# Altium schematic symbol library SpaceVNX.SCHLIB: 113 symbols (part 2 of 4)
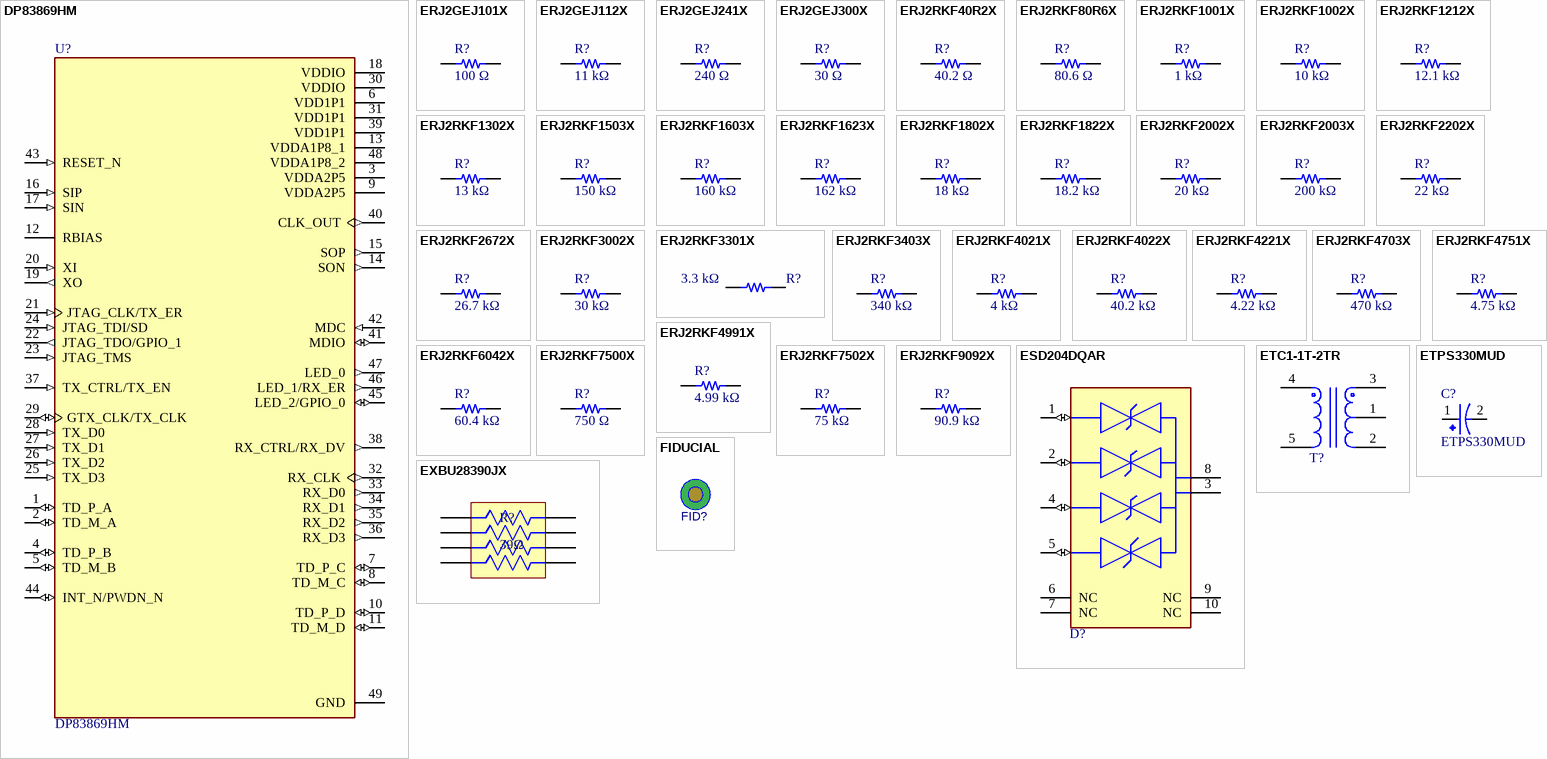
[diagram p14: symbols DP83869HM to FIDUCIAL]

## ERJ2RKF4022X
designator R?, comment 40.2 kΩ
General Purpose Thick Film Chip Resistors; Manufacturer: Panasonic; Power (0402): 0.1 W; Limiting Voltage (0402): 50; Maximum Voltage (0402): 100; Resistance Range (Ω): 1Ω to 100MΩ; AEC 200: Grade 0; Size (0402): 2GE; ComponentLink1Description: Catalog; ComponentLink1URL: https://industrial.panasonic.com/ww/products/pt/general-purpose-chip-resistors/models?op=search&model_status_current=1&page=0#model-list-search-results; Series: ERJ; Temperature Range (ºC): -55 to +155; Supplier 1: Digi-Key; Supplier Part Number 1: P40.2KLTR-ND
footprint PANASONIC_ERJ2G_0402 (Chip Resistor, 2-Leads, Body 1,00x0,50mm, IPC Medium Density)
pins: 1, 2

## ERJ2RKF4221X
designator R?, comment 4.22 kΩ
General Purpose Thick Film Chip Resistors; Manufacturer: Panasonic; Power (0402): 0.1 W; Limiting Voltage (0402): 50; Maximum Voltage (0402): 100; Resistance Range (Ω): 1Ω to 100MΩ; AEC 200: Grade 0; Size (0402): 2GE; ComponentLink1Description: Catalog; ComponentLink1URL: https://industrial.panasonic.com/ww/products/pt/general-purpose-chip-resistors/models?op=search&model_status_current=1&page=0#model-list-search-results; Series: ERJ; Temperature Range (ºC): -55 to +155; Supplier 1: Digi-Key; Supplier 2: Mouser; Supplier Part Number 1: P4.22KLCT-ND; Supplier Part Number 2: 667-ERJ-2RKF4221X
footprint PANASONIC_ERJ2G_0402 (Chip Resistor, 2-Leads, Body 1,00x0,50mm, IPC Medium Density)
pins: 1, 2

## ERJ2RKF4703X
designator R?, comment 470 kΩ
General Purpose Thick Film Chip Resistors; Manufacturer: Panasonic; Power (0402): 0.1 W; Limiting Voltage (0402): 50; Maximum Voltage (0402): 100; Resistance Range (Ω): 1Ω to 100MΩ; AEC 200: Grade 0; Size (0402): 2GE; ComponentLink1Description: Catalog; ComponentLink1URL: https://industrial.panasonic.com/ww/products/pt/general-purpose-chip-resistors/models?op=search&model_status_current=1&page=0#model-list-search-results; Series: ERJ; Temperature Range (ºC): -55 to +155; Supplier 1: Digi-Key; Supplier Part Number 1: P470KLCT-ND
footprint PANASONIC_ERJ2G_0402 (Chip Resistor, 2-Leads, Body 1,00x0,50mm, IPC Medium Density)
pins: 1, 2

## ERJ2RKF4751X
designator R?, comment 4.75 kΩ
General Purpose Thick Film Chip Resistors; Manufacturer: Panasonic; Power (0402): 0.1 W; Limiting Voltage (0402): 50; Maximum Voltage (0402): 100; Resistance Range (Ω): 1Ω to 100MΩ; AEC 200: Grade 0; Size (0402): 2GE; ComponentLink1Description: Catalog; ComponentLink1URL: https://industrial.panasonic.com/ww/products/pt/general-purpose-chip-resistors/models?op=search&model_status_current=1&page=0#model-list-search-results; Series: ERJ; Temperature Range (ºC): -55 to +155; Supplier 1: RSComponents; Supplier 2: Digi-Key; Supplier Part Number 1: 1065277; Supplier Part Number 2: P4.75KLCT-ND
footprint PANASONIC_ERJ2G_0402 (Chip Resistor, 2-Leads, Body 1,00x0,50mm, IPC Medium Density)
pins: 1, 2

## ERJ2RKF4991X
designator R?, comment 4.99 kΩ
General Purpose Thick Film Chip Resistors; Manufacturer: Panasonic; Power (0402): 0.1 W; Limiting Voltage (0402): 50; Maximum Voltage (0402): 100; Resistance Range (Ω): 1Ω to 100MΩ; AEC 200: Grade 0; Size (0402): 2GE; ComponentLink1Description: Catalog; ComponentLink1URL: https://industrial.panasonic.com/ww/products/pt/general-purpose-chip-resistors/models?op=search&model_status_current=1&page=0#model-list-search-results; Series: ERJ; Temperature Range (ºC): -55 to +155; Supplier 1: Digi-Key; Supplier Part Number 1: P4.99KLTR-ND
footprint PANASONIC_ERJ2G_0402 (Chip Resistor, 2-Leads, Body 1,00x0,50mm, IPC Medium Density)
pins: 1, 2

## ERJ2RKF6042X
designator R?, comment 60.4 kΩ
General Purpose Thick Film Chip Resistors; Manufacturer: Panasonic; Power (0402): 0.1 W; Limiting Voltage (0402): 50; Maximum Voltage (0402): 100; Resistance Range (Ω): 1Ω to 100MΩ; AEC 200: Grade 0; Size (0402): 2GE; ComponentLink1Description: Catalog; ComponentLink1URL: https://industrial.panasonic.com/ww/products/pt/general-purpose-chip-resistors/models?op=search&model_status_current=1&page=0#model-list-search-results; Series: ERJ; Temperature Range (ºC): -55 to +155; Supplier 1: Mouser; Supplier 2: Digi-Key; Supplier Part Number 1: 667-ERJ-2RKF6042X; Supplier Part Number 2: P60.4KLCT-ND
footprint PANASONIC_ERJ2G_0402 (Chip Resistor, 2-Leads, Body 1,00x0,50mm, IPC Medium Density)
pins: 1, 2

## ERJ2RKF7500X
designator R?, comment 750 Ω
General Purpose Thick Film Chip Resistors; Manufacturer: Panasonic; Power (0402): 0.1 W; Limiting Voltage (0402): 50; Maximum Voltage (0402): 100; Resistance Range (Ω): 1Ω to 100MΩ; AEC 200: Grade 0; Size (0402): 2GE; ComponentLink1Description: Catalog; ComponentLink1URL: https://industrial.panasonic.com/ww/products/pt/general-purpose-chip-resistors/models?op=search&model_status_current=1&page=0#model-list-search-results; Series: ERJ; Temperature Range (ºC): -55 to +155; Supplier 1: Avnet; Supplier Part Number 1: 73T6541
footprint PANASONIC_ERJ2G_0402 (Chip Resistor, 2-Leads, Body 1,00x0,50mm, IPC Medium Density)
pins: 1, 2

## ERJ2RKF7502X
designator R?, comment 75 kΩ
General Purpose Thick Film Chip Resistors; Manufacturer: Panasonic; Power (0402): 0.1 W; Limiting Voltage (0402): 50; Maximum Voltage (0402): 100; Resistance Range (Ω): 1Ω to 100MΩ; AEC 200: Grade 0; Size (0402): 2GE; ComponentLink1Description: Catalog; ComponentLink1URL: https://industrial.panasonic.com/ww/products/pt/general-purpose-chip-resistors/models?op=search&model_status_current=1&page=0#model-list-search-results; Series: ERJ; Temperature Range (ºC): -55 to +155; Supplier 1: Digi-Key; Supplier Part Number 1: P75.0KLCT-ND
footprint PANASONIC_ERJ2G_0402 (Chip Resistor, 2-Leads, Body 1,00x0,50mm, IPC Medium Density)
pins: 1, 2

## ERJ2RKF9092X
designator R?, comment 90.9 kΩ
General Purpose Thick Film Chip Resistors; Manufacturer: Panasonic; Power (0402): 0.1 W; Limiting Voltage (0402): 50; Maximum Voltage (0402): 100; Resistance Range (Ω): 1Ω to 100MΩ; AEC 200: Grade 0; Size (0402): 2GE; ComponentLink1Description: Catalog; ComponentLink1URL: https://industrial.panasonic.com/ww/products/pt/general-purpose-chip-resistors/models?op=search&model_status_current=1&page=0#model-list-search-results; Series: ERJ; Temperature Range (ºC): -55 to +155; Supplier 1: Mouser; Supplier 2: Digi-Key; Supplier Part Number 2: P90.9KLCT-ND; Supplier Part Number 1: 667-ERJ-2RKF9092X
footprint PANASONIC_ERJ2G_0402 (Chip Resistor, 2-Leads, Body 1,00x0,50mm, IPC Medium Density)
pins: 1, 2

## ESD204DQAR
designator D?  (value not drawn)
ESD204 4-Channel Low-Capacitance Surge and ESD Protection Diode; Number of channels (#): 4; IO capacitance (Typ) (pF): 0.55; Vrwm (V): 3.6; Bi-/uni-directional: Bi-Directional; IO leakage current (Max) (nA): 10; Rating: Catalog; Dynamic resistance (Typ) (Ω): 0.3; Clamping voltage (V): 11.5; Operating temperature range (C): -40ºC to 125ºC; ComponentLink1Description: Manufacturer; ComponentLink1URL: https://www.ti.com/product/ESD204; Supplier 1: Digi-Key; Supplier 2: Mouser; Supplier Part Number 1: 296-49504-1-ND; Supplier Part Number 2: 595-ESD204DQAR
footprint TEXAS_USON10 (DQA)
pins: 1 IO1 (io), 2 IO2 (io), 3 GND (power), 4 IO3 (io), 5 IO4 (io), 6 NC, 7 NC, 8 GND (power), 9 NC, 10 NC

## ETC1-1T-2TR
designator T?  (value not drawn)
1:1 Flux Coupled Balun 0.1-200MHz; Frequency Range: 100 kHz to 200 MHz; Primary Impedance: 50 Ohms; Maximum DC Current: 30 mA; Power Rating: 250 mW (1/4 W); Type: RF transformer; Package: SM-22-5; ComponentLink1Description: Manufacturer; ComponentLink1URL: https://www.macom.com/products/product-detail/ETC1-1T-2TR; Supplier 1: Mouser; Supplier 2: Digi-Key; Supplier Part Number 1: 937-ETC1-1T-2; Supplier Part Number 2: ETC1-1T-2TR-ND
footprint MA-COM_ETC1-1T-2TR
pins: 1 Secondary, 2 Secondary CT, 3 Secondary Dot, 4 Primary Dot, 5 Primary

## ETPS330MUD
designator C?
Conductive Polymer Tantalum Solid Capacitors; Rated capacitance range (µF): 330.00; Rated voltage (DC) (V): 2.50; MF: Panasonic; Package: B1S; MP: ETPS330MUD; Supplier 1: Digi-Key; Supplier Part Number 1: 10-ETPS330MUDDKR-ND
footprint PANASONIC_B1S
pins: 1, 2

## EXBU28390JX
designator R?, comment 39Ω
Chip Resistor Array; Manufacturer: Panasonic; Power: 0.063 W; Limiting Voltage (0402): 50; Maximum Voltage (0402): 100; Resistance Range (Ω): 1Ω to 100MΩ; AEC 200: Grade 0; Size: 2.0 X 1.0; ComponentLink1Description: Catalog; ComponentLink1URL: https://industrial.panasonic.com/ww/products/pt/resistor-network-array/models; Series: EXB; Temperature Range (ºC): -55 to +155; Supplier 1: Digi-Key; Supplier Part Number 1: P16171CT-ND
footprint PANASONIC_EXB_0402 (4 resistors in 2.0 mm x 1.0 mm size / 0804 inch size)
pins: 1, 2, 3, 4, 5, 6, 7, 8

## FIDUCIAL
designator FID?  (value not drawn)
PCB fiducial
footprint FID1MM/2MM-SS (Fiducial 1mm copper, 2mm soldermask, single-side)

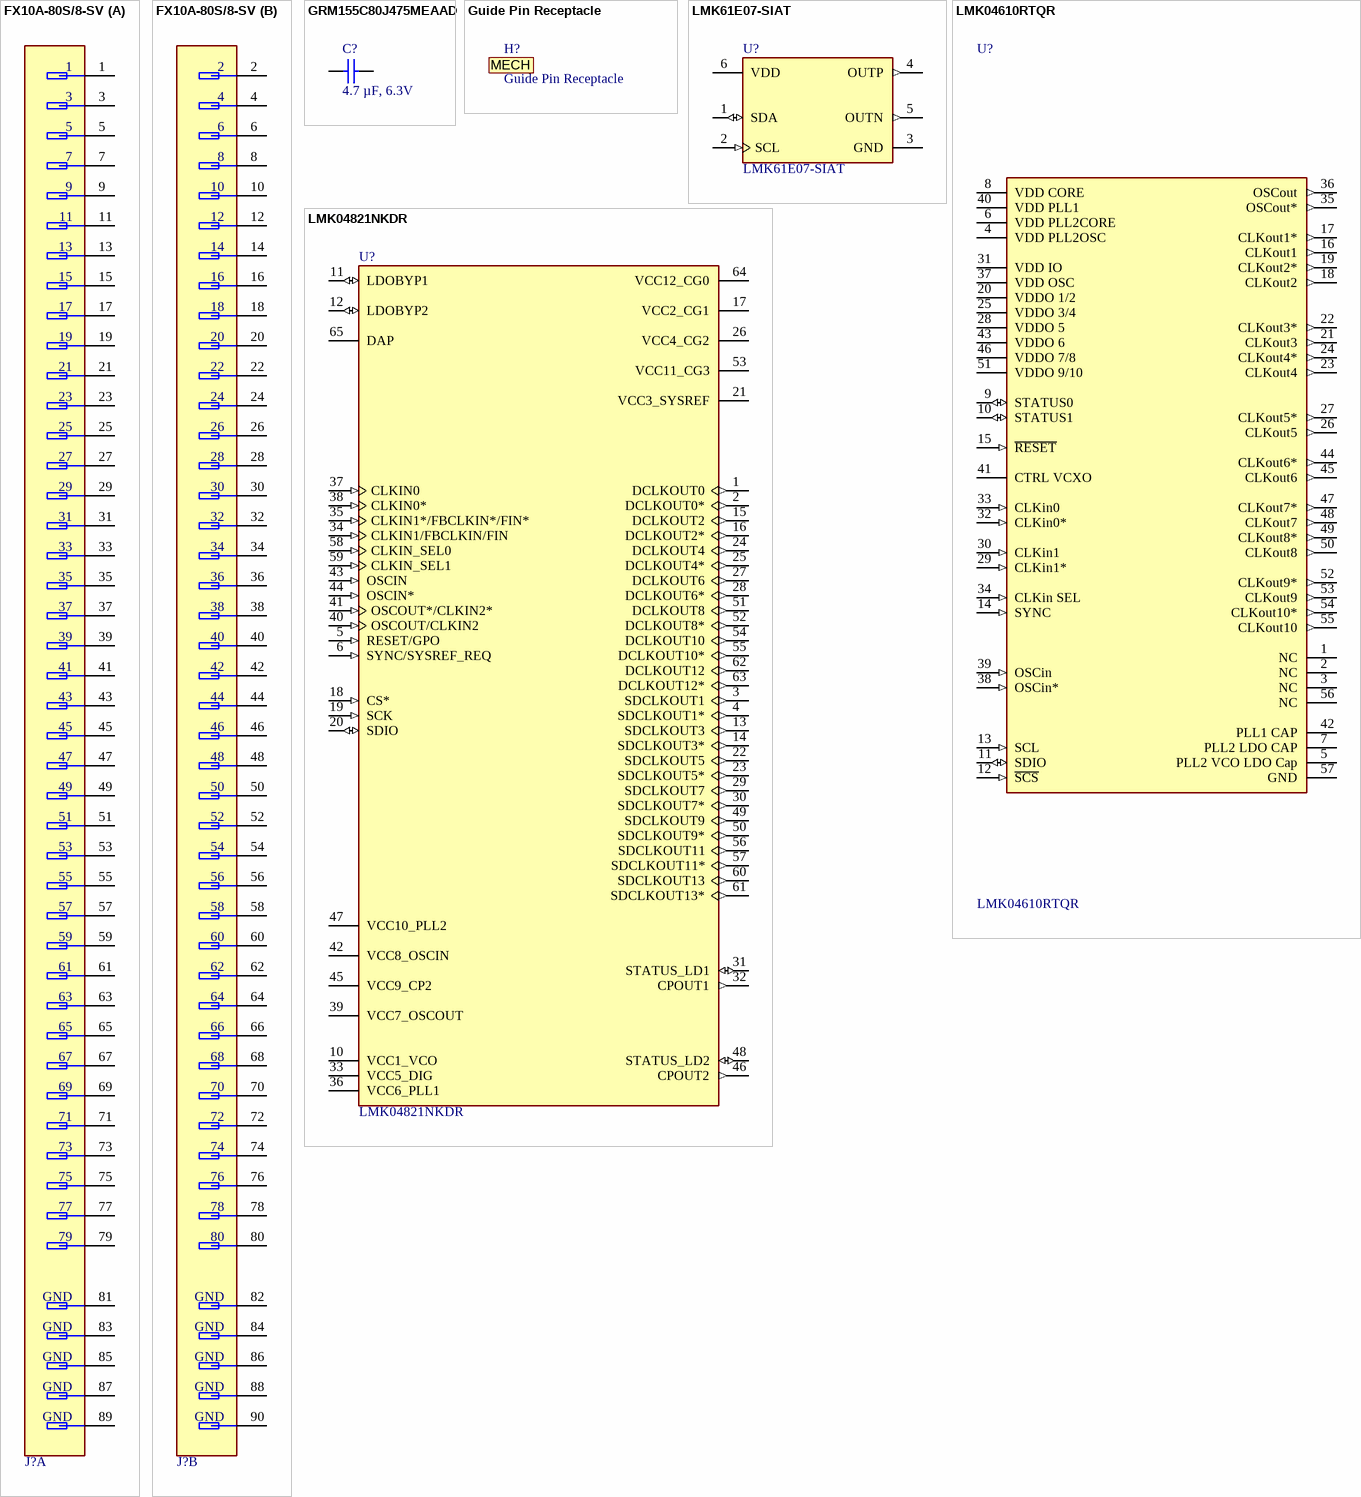
[diagram p3: symbols FX10A-80S/8-SV to LMK04821NKDR]

## FX10A-80S/8-SV
designator J?  (value not drawn)
80 Position Connector Header, Outer Shroud Contacts Surface Mount Gold; ComponentLink1Description: Manufacturer; ComponentLink1URL: https://www.hirose.com/en/product/p/CL0570-0121-7-71; Supplier 1: Digi-Key; Supplier 2: Mouser; Supplier Part Number 2: 798-FX10A80S8SV71; Supplier Part Number 1: H11232-ND
footprint HRS_FX10A-80S/8-SV (80 Position Connector Header, Outer Shroud Contacts Surface Mount Gold)
part A pins: 1, 3, 5, 7, 9, 11, 13, 15, 17, 19, 21, 23, 25, 27, 29, 31, 33, 35, 37, 39, 41, 43, 45, 47, 49, 51, 53, 55, 57, 59, 61, 63, 65, 67, 69, 71, 73, 75, 77, 79, 81 GND, 83 GND, 85 GND, 87 GND, 89 GND
part B pins: 2, 4, 6, 8, 10, 12, 14, 16, 18, 20, 22, 24, 26, 28, 30, 32, 34, 36, 38, 40, 42, 44, 46, 48, 50, 52, 54, 56, 58, 60, 62, 64, 66, 68, 70, 72, 74, 76, 78, 80, 82 GND, 84 GND, 86 GND, 88 GND, 90 GND

## GRM155C80J475MEAAD
designator C?, comment 4.7 µF, 6.3V
Multilayer Ceramic Capacitors MLCC, size 0402, X5R, 4.7 µF, 6.3V; Manufacturer Part Number: GRM155C80J475MEAAD; Manufacturer: Murata; Rated Voltage: 6.3VDC; Ceramic Type: X6S; Capacitance Tolerance: +/-20%; Dissipation Factor max.: 10%; Capacitance: 4.7 µF; Operating Temperature: -55 to +105degC; Packaging: Tape and Reel; Height: 0.5mm; Mounting Technology: SMT; Size: 0402; Supplier 1: Digi-Key; Supplier 2: Mouser; Supplier Part Number 1: 490-14458-1-ND; Supplier Part Number 2: 81-GRM155C80J475MEAD
footprint WURTH_WCAP-CSGP_0402 (Ceramic Capacitors, body 1x0.5mm)
pins: 1, 2

## Guide Pin Receptacle
designator H?
Keyed Guide Right Angle Receptacle; Supplier 1: Avnet; Supplier Part Number 1: 10037912-119LF
footprint Guide Pin Receptacle
text: MECH

## LMK61E07-SIAT
designator U?
Multi-signal format, ultra-low jitter programmable oscillator with internal EEPROM; MF: Texas Instruments; Output frequency (Max) (MHz): 1000  MHz; Output level: HCSL, LVDS, LVPECL; Jitter (ps): 0.15; Stability (ppm): 25; Core supply voltage (V): 3.3; Default Frequency: 70.656 MHz; Operating temperature range (C): -40 to 85; Features: Programmable with EEPROM,Fast Mode I2C; Supplier 1: Mouser; Supplier 2: Digi-Key; Supplier Part Number 1: 595-LMK61E07-SIAT; Supplier Part Number 2: 296-51347-2-ND
footprint TEXAS_QFMSIA06 (Quad Flat Module)
pins: 1 SDA (io), 2 SCL (in), 3 GND (power), 4 OUTP (out), 5 OUTN (out), 6 VDD (power)

## LMK04610RTQR
designator U?
Ultra low-noise and low power JESD204B compliant clock jitter cleaner with dual PLLs.; Number of outputs: 10; RMS jitter (fs): 65; Output frequency (Min) (MHz): 0.03; Output frequency (Max) (MHz): 2000; Function: Dual-loop PLL; Input type: LVCMOS, LVDS, LVPECL; Output type: LVDS, LVPECL; Supply voltage (Min) (V): 1.7; Supply voltage (Max) (V): 3.465; ComponentLink1Description: Manufacturer; ComponentLink1URL: https://www.ti.com/product/LMK04828; ComponentLink2Description: Datasheet; ComponentLink2URL: https://www.ti.com/lit/ds/symlink/lmk04828.pdf?ts=1643235840450&ref_url=https%253A%252F%252Fwww.ti.com%252Fproduct%252FLMK04828; ComponentLink3Description: Package Specification; ComponentLink3URL: https://www.ti.com/lit/ml/mpqs032a/mpqs032a.pdf?ts=1643290177634&ref_url=https%253A%252F%252Fwww.ti.com%252Fpackaging%252Fdocs%252Fsearchproductbypackage.tsp%253ForderablePartNumber%253D%2526packageDesignator%253DNKD%2526pinCount%253D64%2526results%253Dresults; Operating temperature range (ºC): -40ºC to 85ºC; Supplier 1: Digi-Key; Supplier 2: Digi-Key; Supplier Part Number 1: 296-51339-1-ND; Supplier Part Number 2: 296-51339-6-ND
footprint TEXAS_VQFN56 (RTQ, 0.5mm pitch, 8x8mm body)
pins: 1 NC, 2 NC, 3 NC, 4 VDD PLL2OSC (power), 5 PLL2 VCO LDO Cap (power), 6 VDD PLL2CORE (power), 7 PLL2 LDO CAP (power), 8 VDD CORE (power), 9 STATUS0 (io), 10 STATUS1 (io), 11 SDIO (io), 12 ~{SCS} (in), 13 SCL (in), 14 SYNC (in), 15 ~{RESET} (in), 16 CLKout1 (out), 17 CLKout1* (out), 18 CLKout2 (out), 19 CLKout2* (out), 20 VDDO 1/2 (power), 21 CLKout3 (out), 22 CLKout3* (out), 23 CLKout4 (out), 24 CLKout4* (out), 25 VDDO 3/4 (power), 26 CLKout5 (out), 27 CLKout5* (out), 28 VDDO 5 (power), 29 CLKin1* (in), 30 CLKin1 (in), 31 VDD IO (power), 32 CLKin0* (in), 33 CLKin0 (in), 34 CLKin SEL (in), 35 OSCout* (out), 36 OSCout (out), 37 VDD OSC (power), 38 OSCin* (in), 39 OSCin (in), 40 VDD PLL1 (power), 41 CTRL VCXO (power), 42 PLL1 CAP, 43 VDDO 6 (power), 44 CLKout6* (out), 45 CLKout6 (out), 46 VDDO 7/8 (power), 47 CLKout7* (out), 48 CLKout7 (out), 49 CLKout8* (out), 50 CLKout8 (out), 51 VDDO 9/10 (power), 52 CLKout9* (out), 53 CLKout9 (out), 54 CLKout10* (out), 55 CLKout10 (out), 56 NC, 57 GND (power)

## LMK04821NKDR
designator U?
Ultra low-noise JESD204B compliant clock jitter cleaner with integrated 2370 to 2630-MHz VCO.; Number of outputs: 15; RMS jitter (fs): 88; Output frequency (Min) (MHz): 0.289; Output frequency (Max) (MHz): 3080; Function: Dual-loop PLL; Input type: LVCMOS, LVDS, LVPECL; Supply voltage (Min) (V): 3.15; Supply voltage (Max) (V): 3.45; ComponentLink1Description: Manufacturer; ComponentLink1URL: https://www.ti.com/product/LMK04828; ComponentLink2Description: Datasheet; ComponentLink2URL: https://www.ti.com/lit/ds/symlink/lmk04828.pdf?ts=1643235840450&ref_url=https%253A%252F%252Fwww.ti.com%252Fproduct%252FLMK04828; ComponentLink3Description: Package Specification; ComponentLink3URL: https://www.ti.com/lit/ml/mpqs032a/mpqs032a.pdf?ts=1643290177634&ref_url=https%253A%252F%252Fwww.ti.com%252Fpackaging%252Fdocs%252Fsearchproductbypackage.tsp%253ForderablePartNumber%253D%2526packageDesignator%253DNKD%2526pinCount%253D64%2526results%253Dresults; Output type: LVCMOS, LVDS, LVPECL; Operating temperature range (ºC): -40ºC to 85ºC; Supplier 1: Digi-Key; Supplier Part Number 1: LMK04821NKDR-ND
footprint TEXAS_WQFN64
pins: 1 DCLKOUT0 (out), 2 DCLKOUT0* (out), 3 SDCLKOUT1 (out), 4 SDCLKOUT1* (out), 5 RESET/GPO (in), 6 SYNC/SYSREF_REQ (in), 10 VCC1_VCO (power), 11 LDOBYP1 (io), 12 LDOBYP2 (io), 13 SDCLKOUT3 (out), 14 SDCLKOUT3* (out), 15 DCLKOUT2 (out), 16 DCLKOUT2* (out), 17 VCC2_CG1 (power), 18 CS* (in), 19 SCK (in), 20 SDIO (io), 21 VCC3_SYSREF (power), 22 SDCLKOUT5 (out), 23 SDCLKOUT5* (out), 24 DCLKOUT4 (out), 25 DCLKOUT4* (out), 26 VCC4_CG2 (power), 27 DCLKOUT6 (out), 28 DCLKOUT6* (out), 29 SDCLKOUT7 (out), 30 SDCLKOUT7* (out), 31 STATUS_LD1 (io), 32 CPOUT1 (out), 33 VCC5_DIG (power), 34 CLKIN1/FBCLKIN/FIN (in), 35 CLKIN1*/FBCLKIN*/FIN* (in), 36 VCC6_PLL1 (power), 37 CLKIN0 (in), 38 CLKIN0* (in), 39 VCC7_OSCOUT (power), 40 OSCOUT/CLKIN2 (in), 41 OSCOUT*/CLKIN2* (in), 42 VCC8_OSCIN (power), 43 OSCIN (in), 44 OSCIN* (in), 45 VCC9_CP2 (power), 46 CPOUT2 (out), 47 VCC10_PLL2 (power), 48 STATUS_LD2 (io), 49 SDCLKOUT9 (out), 50 SDCLKOUT9* (out), 51 DCLKOUT8 (out), 52 DCLKOUT8* (out), 53 VCC11_CG3 (power), 54 DCLKOUT10 (out), 55 DCLKOUT10* (out), 56 SDCLKOUT11 (out), 57 SDCLKOUT11* (out), 58 CLKIN_SEL0 (in), 59 CLKIN_SEL1 (in), 60 SDCLKOUT13 (out), 61 SDCLKOUT13* (out), 62 DCLKOUT12 (out), 63 DCLKOUT12* (out), 64 VCC12_CG0 (power), 65 DAP (power)

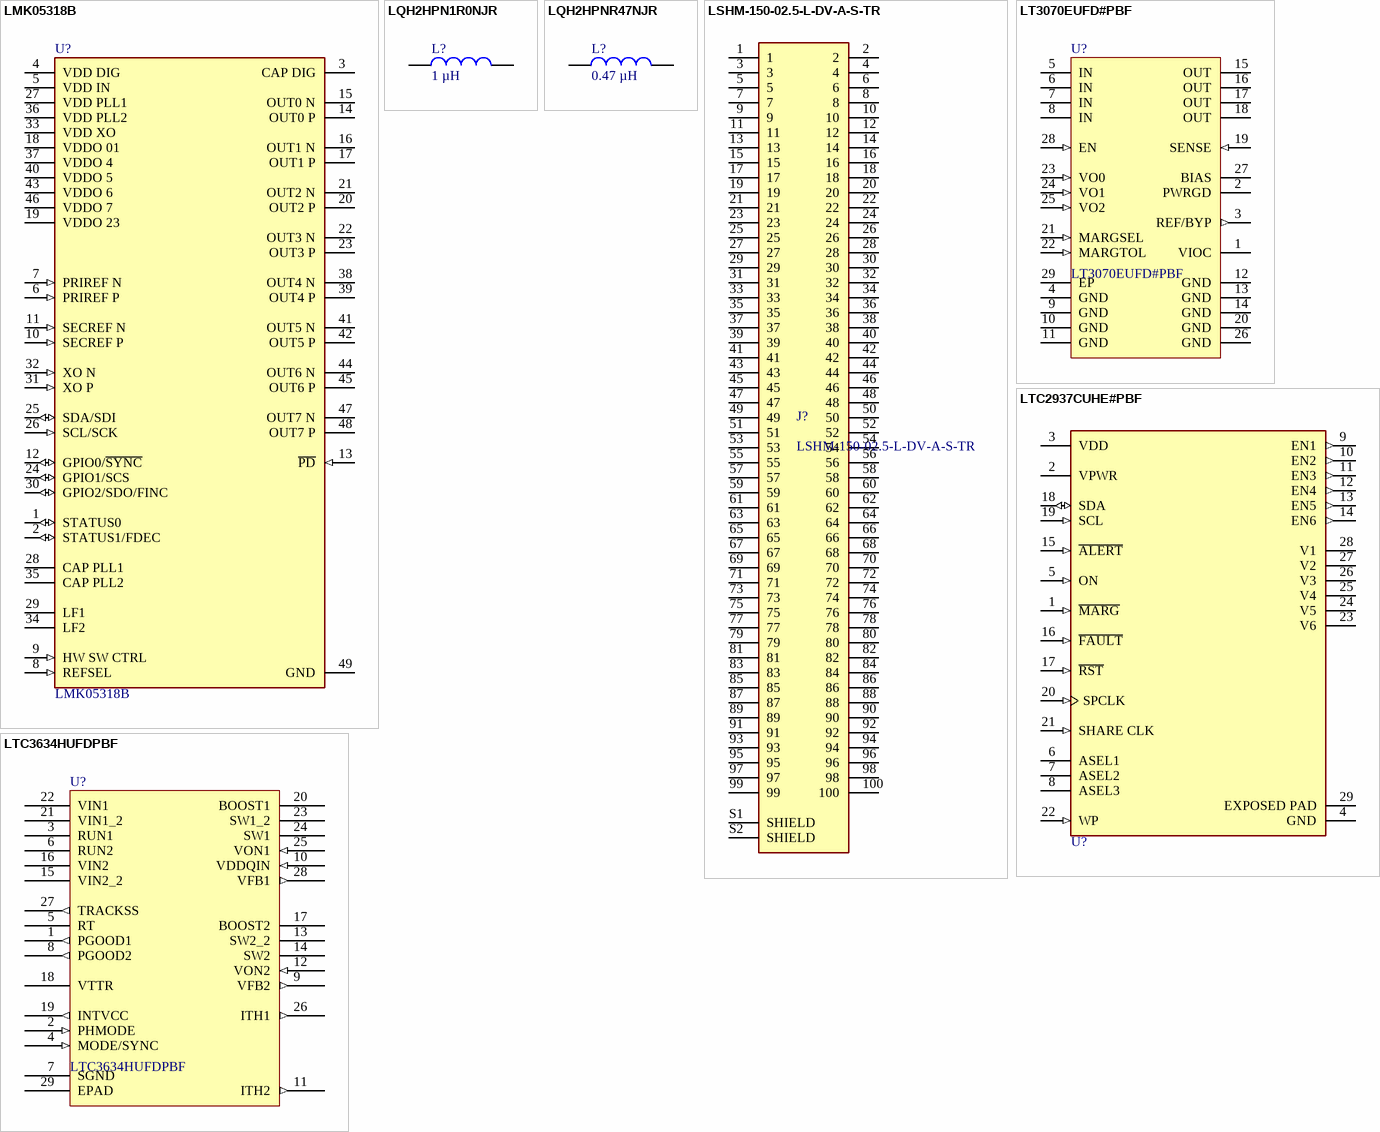
[diagram p4: symbols LMK05318B to LTC3634HUFDPBF]

## LMK05318B
designator U?
Ultra-low jitter single channel network synchronizer clock with BAW; Input type: LVCMOS, LVDS, LVPECL, XTAL; Output type: LVDS, CML, LVPECL, HCSL, LVCMOS; Output frequency (Min) (MHz): 0.000001; Output frequency (Max) (MHz): 800; Supply voltage (Min) (V): 3.135; Supply voltage (Max) (V): 3.465; RMS jitter (fs): 50; Number of outputs: 8; Function: Clock network synchronizer; Operating temperature range (C): -40 to 85; Package: VQFN48; Supplier 1: Digi-Key; Supplier 2: Mouser; Supplier Part Number 1: 296-LMK05318BRGZTCT-ND; Supplier Part Number 2: 595-LMK05318BRGZT
footprint TEXAS_VQFN48 (RGZ, 0.5mm pitch, 7x7mm body)
pins: 1 STATUS0 (io), 2 STATUS1/FDEC (io), 3 CAP DIG, 4 VDD DIG (power), 5 VDD IN (power), 6 PRIREF P (in), 7 PRIREF N (in), 8 REFSEL (in), 9 HW SW CTRL (in), 10 SECREF P (in), 11 SECREF N (in), 12 GPIO0/~{SYNC} (io), 13 ~{PD} (in), 14 OUT0 P, 15 OUT0 N, 16 OUT1 N, 17 OUT1 P, 18 VDDO 01 (power), 19 VDDO 23 (power), 20 OUT2 P, 21 OUT2 N, 22 OUT3 N, 23 OUT3 P, 24 GPIO1/SCS (io), 25 SDA/SDI (io), 26 SCL/SCK (in), 27 VDD PLL1 (power), 28 CAP PLL1, 29 LF1, 30 GPIO2/SDO/FINC (io), 31 XO P (in), 32 XO N (in), 33 VDD XO (power), 34 LF2, 35 CAP PLL2, 36 VDD PLL2 (power), 37 VDDO 4 (power), 38 OUT4 N, 39 OUT4 P, 40 VDDO 5 (power), 41 OUT5 N, 42 OUT5 P, 43 VDDO 6 (power), 44 OUT6 N, 45 OUT6 P, 46 VDDO 7 (power), 47 OUT7 N, 48 OUT7 P, 49 GND (power)

## LQH2HPN1R0NJR
designator L?, comment 1 µH
Wire Wound Ferrite Inductor; Manufacturer: Murata; Inductance: 470 nH - 22 µH; AEC 200: Grade 0; Length (mm): 2.5; Width (mm): 2; ComponentLink1Description: Manufacturer; ComponentLink1URL: https://www.murata.com/search/productsearch?cate=cgInductors&partno=LQH2HPN_JR&realtime=1&sort=d_inductance; Height (mm): 1.2; Operating temperature range (C): −40°C to +125°C; Series: LQH2HPN_JR; Supplier 1: Digi-Key; Supplier 2: Mouser; Supplier Part Number 1: 490-9898-1-ND; Supplier Part Number 2: 81-LQH2HPN1R0NJRL
footprint Murata_LQH2HPN_JR (1008 (2520))
pins: 1, 2

## LQH2HPNR47NJR
designator L?, comment 0.47 µH
Wire Wound Ferrite Inductor; Manufacturer: Murata; Inductance: 470 nH - 22 µH; AEC 200: Grade 0; Length (mm): 2.5; Width (mm): 2; ComponentLink1Description: Manufacturer; ComponentLink1URL: https://www.murata.com/search/productsearch?cate=cgInductors&partno=LQH2HPN_JR&realtime=1&sort=d_inductance; Height (mm): 1.2; Operating temperature range (C): −40°C to +125°C; Series: LQH2HPN_JR; Supplier 1: Digi-Key; Supplier 2: Mouser; Supplier Part Number 1: 490-9906-1-ND; Supplier Part Number 2: 81-LQH2HPNR47NJRL
footprint Murata_LQH2HPN_JR (1008 (2520))
pins: 1, 2

## LSHM-150-02.5-L-DV-A-S-TR
designator J?
100 Position Connector Self Mating, Non-Gendered Surface Mount Gold; ComponentLink1Description: Manufacturer; ComponentLink1URL: https://www.samtec.com/products/lshm; System: Connector
footprint SAMTEC_LSHM-150-02.5-L-DV-A-S-TR (Footprint not found)
pins: 1, 2, 3, 4, 5, 6, 7, 8, 9, 10, 11, 12, 13, 14, 15, 16, 17, 18, 19, 20, 21, 22, 23, 24, 25, 26, 27, 28, 29, 30, 31, 32, 33, 34, 35, 36, 37, 38, 39, 40, 41, 42, 43, 44, 45, 46, 47, 48, 49, 50, 51, 52, 53, 54, 55, 56, 57, 58, 59, 60, 61, 62, 63, 64, 65, 66, 67, 68, 69, 70, 71, 72, 73, 74, 75, 76, 77, 78, 79, 80, 81, 82, 83, 84, 85, 86, 87, 88, 89, 90, 91, 92, 93, 94, 95, 96, 97, 98, 99, 100, S1 SHIELD, S2 SHIELD

## LT3070EUFD#PBF
designator U?
5 A, Low Noise, Programmable Output 85 mV Dropout Linear Regulator, 0.95 to 3 V Vin, Adjustable Vout, 28-pin QFN (UFD-28), -40 to 125 degC, Pb-Free; Manufacturer: Linear Technology; Iout(mA): 5000; Vin Min(V): 0.95; Number of Outputs: 1; PSRR(dB): 72; Vin Max(V): 3; Noise(uV): 25; Vout Min(V): 0.8; Dropout Voltage(V): 0.085; Discrete Pass Element: no; Output Voltage: Adj; Vout Max(V): 1.8; PartNumber: LT3070EUFD#PBF; Isupply(mA): 1; Mounting Technology: Surface Mount; PackageReference: UFD-28; PackageDescription: 28-Pin Plastic QFN, Body 5 x 4 mm, Pitch 0.5 mm; Supplier 1: Mouser; Supplier Part Number 1: 584-LT3070EUFD#PBF
footprint LTC_QFN28_UFD (28-Lead Plastic QFN (4mm × 5mm))
pins: 1 VIOC (power) "Voltage for In-to-Out Control. The IC incorporates a unique tracking function to control a buck regulator powering the LT3070’s input. The VIOC pin is the output of this tracking function that drives the buck regulator t(See Datasheet)", 2 PWRGD (oc) "Power Good. The PWRGD pin is an open-drain NMOS output that actively pulls low if any one of these fault modes is detected: • VOUT is less than 90% of VOUT(NOMINAL) on the rising edge of VOUT . • VOUT drops below 85%(See Datasheet)", 3 REF/BYP (out) "Reference Filter. The pin is the output of the bandgap reference and has an impedance of approximately 19kohm. This pin must not be externally loaded. Bypassing the REF/BYP pin to GND with a 10nF capacitor decreases output (See Datasheet)", 4 GND (power) "Ground. The exposed pad (Pin 29) of the QFN package is an electrical connection to GND. To ensure proper electrical and thermal performance, solder Pin 29 to the PCB ground and tie to all GND pins of the package. These GND (See Datasheet)", 5 IN (power) "Input Supply. These pins supply power to the high current pass transistor. Tie all IN pins together for proper performance. The LT3070 requires a bypass capacitor at IN to maintain stability and low input impedance over (See Datasheet)", 6 IN (power) "Input Supply. These pins supply power to the high current pass transistor. Tie all IN pins together for proper performance. The LT3070 requires a bypass capacitor at IN to maintain stability and low input impedance over (See Datasheet)", 7 IN (power) "Input Supply. These pins supply power to the high current pass transistor. Tie all IN pins together for proper performance. The LT3070 requires a bypass capacitor at IN to maintain stability and low input impedance over (See Datasheet)", 8 IN (power) "Input Supply. These pins supply power to the high current pass transistor. Tie all IN pins together for proper performance. The LT3070 requires a bypass capacitor at IN to maintain stability and low input impedance over (See Datasheet)", 9 GND (power) "Ground. The exposed pad (Pin 29) of the QFN package is an electrical connection to GND. To ensure proper electrical and thermal performance, solder Pin 29 to the PCB ground and tie to all GND pins of the package. These GND (See Datasheet)", 10 GND (power) "Ground. The exposed pad (Pin 29) of the QFN package is an electrical connection to GND. To ensure proper electrical and thermal performance, solder Pin 29 to the PCB ground and tie to all GND pins of the package. These GND (See Datasheet)", 11 GND (power) "Ground. The exposed pad (Pin 29) of the QFN package is an electrical connection to GND. To ensure proper electrical and thermal performance, solder Pin 29 to the PCB ground and tie to all GND pins of the package. These GND (See Datasheet)", 12 GND (power) "Ground. The exposed pad (Pin 29) of the QFN package is an electrical connection to GND. To ensure proper electrical and thermal performance, solder Pin 29 to the PCB ground and tie to all GND pins of the package. These GND (See Datasheet)", 13 GND (power) "Ground. The exposed pad (Pin 29) of the QFN package is an electrical connection to GND. To ensure proper electrical and thermal performance, solder Pin 29 to the PCB ground and tie to all GND pins of the package. These GND (See Datasheet)", 14 GND (power) "Ground. The exposed pad (Pin 29) of the QFN package is an electrical connection to GND. To ensure proper electrical and thermal performance, solder Pin 29 to the PCB ground and tie to all GND pins of the package. These GND (See Datasheet)", 15 OUT (power) "Output. These pins supply power to the load. Tie all OUT pins together for proper performance. A minimum output capacitance of 15uF is required for stability. LTC recommends low ESR, X5R or X7R dielectric ceramic capacitors (See Datasheet)", 16 OUT (power) "Output. These pins supply power to the load. Tie all OUT pins together for proper performance. A minimum output capacitance of 15uF is required for stability. LTC recommends low ESR, X5R or X7R dielectric ceramic capacitors (See Datasheet)", 17 OUT (power) "Output. These pins supply power to the load. Tie all OUT pins together for proper performance. A minimum output capacitance of 15uF is required for stability. LTC recommends low ESR, X5R or X7R dielectric ceramic capacitors (See Datasheet)", 18 OUT (power) "Output. These pins supply power to the load. Tie all OUT pins together for proper performance. A minimum output capacitance of 15uF is required for stability. LTC recommends low ESR, X5R or X7R dielectric ceramic capacitors (See Datasheet)", 19 SENSE (in) "Kelvin Sense for OUT . The SENSE pin is the inverting input to the error amplifier. Optimum regulation is obtained when the SENSE pin is connected to the OUT pins of the regulator. In critical applications, the resistance (See Datasheet)", 20 GND (power) "Ground. The exposed pad (Pin 29) of the QFN package is an electrical connection to GND. To ensure proper electrical and thermal performance, solder Pin 29 to the PCB ground and tie to all GND pins of the package. These GND (See Datasheet)", 21 MARGSEL (in) "Margining Enable and Polarity Selection. This three-state pin determines both the polarity and the active state of the margining function. The logic low threshold is less than 250mV referenced to GND and enables negative (See Datasheet)", 22 MARGTOL (in) "Margining Tolerance. This three-state pin selects the absolute value of margining (1%, 3% or 5%) if enabled by the MARGSEL input. The logic low threshold is less than 250mV referenced to GND and enables either +/-1% change (See Datasheet)", 23 VO0 (in) "Output Voltage Select. These three-state pins combine to select a nominal output voltage from 0.8V to 1.8V in increments of 50mV. Output voltage is limited to 1.8V maximum by an internal override of VO1 when VO2 = high. The (See Datasheet)", 24 VO1 (in) "Output Voltage Select. These three-state pins combine to select a nominal output voltage from 0.8V to 1.8V in increments of 50mV. Output voltage is limited to 1.8V maximum by an internal override of VO1 when VO2 = high. The (See Datasheet)", 25 VO2 (in) "Output Voltage Select. These three-state pins combine to select a nominal output voltage from 0.8V to 1.8V in increments of 50mV. Output voltage is limited to 1.8V maximum by an internal override of VO1 when VO2 = high. The (See Datasheet)", 26 GND (power) "Ground. The exposed pad (Pin 29) of the QFN package is an electrical connection to GND. To ensure proper electrical and thermal performance, solder Pin 29 to the PCB ground and tie to all GND pins of the package. These GND (See Datasheet)", 27 BIAS (power) "Bias Supply. This pin supplies current to the internal control circuitry and the output stage driving the pass transistor. The LT3070 requires a minimum 2.2uF bypass capacitor for stability and proper operation. To ensure (See Datasheet)", 28 EN (in) "Enable. This pin enables/disables the output device only. The internal reference and all support functions are active if VBIAS is above its UVLO threshold. Pulling EN low keeps the reference circuit active, but disables the (See Datasheet)", 29 EP (power) "Ground. The exposed pad (Pin 29) of the QFN package is an electrical connection to GND. To ensure proper electrical and thermal performance, solder Pin 29 to the PCB ground and tie to all GND pins of the package. These GND (See Datasheet)"

## LTC2937CUHE#PBF
designator U?  (value not drawn)
Programmable Six Channel Sequencer and Voltage Supervisor with EEPROM
footprint LTC_QFN28_UHE (28-Lead (5mm × 6mm) Plastic QFN)
pins: 1 ~{MARG} (in), 2 VPWR (power), 3 VDD (power), 4 GND (power), 5 ON (in), 6 ASEL1, 7 ASEL2, 8 ASEL3, 9 EN1 (out), 10 EN2 (out), 11 EN3 (out), 12 EN4 (out), 13 EN5 (out), 14 EN6 (out), 15 ~{ALERT} (in), 16 ~{FAULT} (in), 17 ~{RST} (in), 18 SDA (io), 19 SCL (in), 20 SPCLK (in), 21 SHARE CLK (in), 22 WP (in), 23 V6 (power), 24 V5 (power), 25 V4 (power), 26 V3 (power), 27 V2 (power), 28 V1 (power), 29 EXPOSED PAD (power)

## LTC3634HUFDPBF
designator U?
15V Dual 3A Monolithic Step-Down Regulator for DDR Power; Input Voltage Range: 3.6V to 15V; Maximun Efficiency: 95%; Switching Frequency: 500kHz to 4MHz; Output Current per Channel: ±3A; Package: UFD QFN 28; Supplier 1: Mouser; Supplier Part Number 1: 584-LTC3634EUFD#PBF
footprint LTC_QFN28_UFD (28-Lead Plastic QFN (4mm × 5mm))
pins: 1 PGOOD1 (out), 2 PHMODE (in), 3 RUN1, 4 MODE/SYNC (in), 5 RT, 6 RUN2, 7 SGND (power), 8 PGOOD2 (out), 9 VFB2 (out), 10 VDDQIN (in), 11 ITH2 (out), 12 VON2 (in), 13 SW2_2, 14 SW2, 15 VIN2_2 (power), 16 VIN2 (power), 17 BOOST2, 18 VTTR (power), 19 INTVCC (out), 20 BOOST1, 21 VIN1_2 (power), 22 VIN1 (power), 23 SW1_2, 24 SW1, 25 VON1 (in), 26 ITH1 (out), 27 TRACKSS (out), 28 VFB1 (out), 29 EPAD

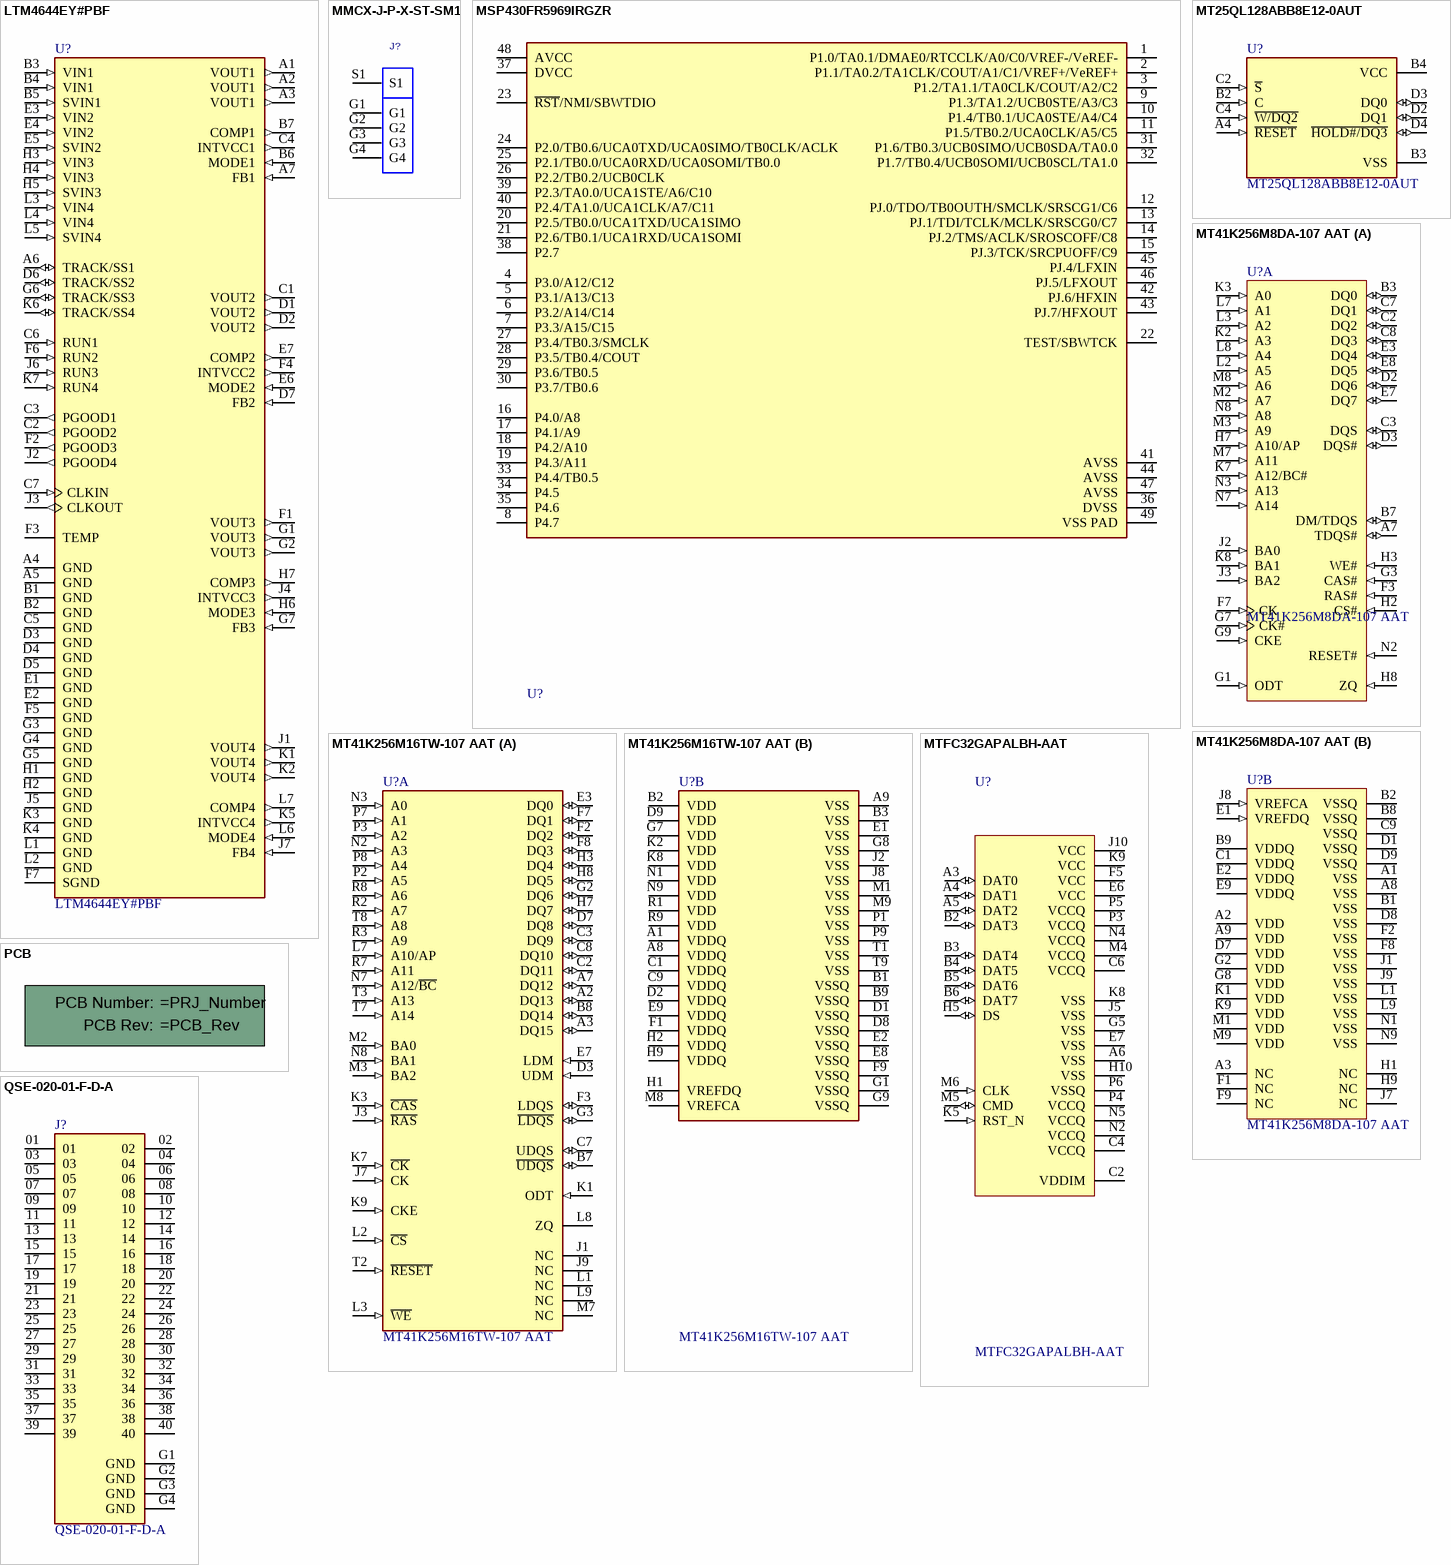
[diagram p5: symbols LTM4644EY#PBF to QSE-020-01-F-D-A]

## LTM4644EY#PBF
designator U?
Non-Isolated PoL Module DC DC Converter 4 Output 0.6 ~ 5.5V 0.6 ~ 5.5V 0.6 ~ 5.5V 0.6 ~ 5.5V 4A, 4A, 4A, 4A 4V - 14V Input; Input Voltage Range: 4V to 14V; Number of Outputs: 4; Output Current: 4A; Package: 9mm × 15mm × 5.01mm BGA; Supplier 1: Mouser; Supplier Part Number 1: 584-LTM4644EY#PBF
footprint LTC_BGA77 (Footprint not found)
pins: A1 VOUT1 (out), A2 VOUT1 (out), A3 VOUT1 (out), A4 GND (power), A5 GND (power), A6 TRACK/SS1 (io), A7 FB1 (in), B1 GND (power), B2 GND (power), B3 VIN1 (in), B4 VIN1 (in), B5 SVIN1 (in), B6 MODE1 (in), B7 COMP1 (out), C1 VOUT2 (out), C2 PGOOD2 (out), C3 PGOOD1 (out), C4 INTVCC1 (out), C5 GND (power), C6 RUN1 (in), C7 CLKIN (in), D1 VOUT2 (out), D2 VOUT2 (out), D3 GND (power), D4 GND (power), D5 GND (power), D6 TRACK/SS2 (io), D7 FB2 (in), E1 GND (power), E2 GND (power), E3 VIN2 (in), E4 VIN2 (in), E5 SVIN2 (in), E6 MODE2 (in), E7 COMP2 (out), F1 VOUT3 (out), F2 PGOOD3 (out), F3 TEMP, F4 INTVCC2 (out), F5 GND (power), F6 RUN2 (in), F7 SGND (power), G1 VOUT3 (out), G2 VOUT3 (out), G3 GND (power), G4 GND (power), G5 GND (power), G6 TRACK/SS3 (io), G7 FB3 (in), H1 GND (power), H2 GND (power), H3 VIN3 (in), H4 VIN3 (in), H5 SVIN3 (in), H6 MODE3 (in), H7 COMP3 (out), J1 VOUT4 (out), J2 PGOOD4 (out), J3 CLKOUT (out), J4 INTVCC3 (out), J5 GND (power), J6 RUN3 (in), J7 FB4 (in), K1 VOUT4 (out), K2 VOUT4 (out), K3 GND (power), K4 GND (power), K5 INTVCC4 (out), K6 TRACK/SS4 (io), K7 RUN4 (in), L1 GND (power), L2 GND (power), L3 VIN4 (in), L4 VIN4 (in), L5 SVIN4 (in), L6 MODE4 (in), L7 COMP4 (out)

## MMCX-J-P-X-ST-SM1
designator J?  (value not drawn)
50 Ω MMCX up to 6 GHz; Manufacturer: Samtec; Max. Frequency: 6 GHz; Impedance: 50Ω; Gender: Jack; Orientation: Straight; Termination: Surface Mount
footprint MMCX-J-P-X-ST-SM1
pins: G1, G2, G3, G4, S1

## MSP430FR5969IRGZR
designator U?  (value not drawn)
MSP430™ FRAM Microcontroller IC 16-Bit 16MHz 64KB (64K x 8) FRAM 48-VQFN (7x7); Manufacturer: Texas Instruments; Num Pins: 48; ComponentLink2Description: Datasheet; Temperature: -40°C to +85°C; Package: RGZ (S-PVQFN-N48); Supplier 2: Mouser; Supplier 1: Digi-Key; ComponentLink1URL: https://upverter.com/upn/revision/0afe62f7510e28e0/; Supplier Part Number 2: 595-SP430FR5969IRGZR; Supplier Part Number 1: 296-37875-1-ND; ComponentLink1Description: Upverter; ComponentLink2URL: http://www.ti.com/lit/ds/symlink/msp430fr5969.pdf; Mouser Part Number: 595-SP430FR5969IRGZR
footprint TEXAS_VQFN48 (RGZ, 0.5mm pitch, 7x7mm body)
pins: 1 P1.0/TA0.1/DMAE0/RTCCLK/A0/C0/VREF-/VeREF-, 2 P1.1/TA0.2/TA1CLK/COUT/A1/C1/VREF+/VeREF+, 3 P1.2/TA1.1/TA0CLK/COUT/A2/C2, 4 P3.0/A12/C12, 5 P3.1/A13/C13, 6 P3.2/A14/C14, 7 P3.3/A15/C15, 8 P4.7, 9 P1.3/TA1.2/UCB0STE/A3/C3, 10 P1.4/TB0.1/UCA0STE/A4/C4, 11 P1.5/TB0.2/UCA0CLK/A5/C5, 12 PJ.0/TDO/TB0OUTH/SMCLK/SRSCG1/C6, 13 PJ.1/TDI/TCLK/MCLK/SRSCG0/C7, 14 PJ.2/TMS/ACLK/SROSCOFF/C8, 15 PJ.3/TCK/SRCPUOFF/C9, 16 P4.0/A8, 17 P4.1/A9, 18 P4.2/A10, 19 P4.3/A11, 20 P2.5/TB0.0/UCA1TXD/UCA1SIMO, 21 P2.6/TB0.1/UCA1RXD/UCA1SOMI, 22 TEST/SBWTCK, 23 ~{RST}/NMI/SBWTDIO, 24 P2.0/TB0.6/UCA0TXD/UCA0SIMO/TB0CLK/ACLK, 25 P2.1/TB0.0/UCA0RXD/UCA0SOMI/TB0.0, 26 P2.2/TB0.2/UCB0CLK, 27 P3.4/TB0.3/SMCLK, 28 P3.5/TB0.4/COUT, 29 P3.6/TB0.5, 30 P3.7/TB0.6, 31 P1.6/TB0.3/UCB0SIMO/UCB0SDA/TA0.0, 32 P1.7/TB0.4/UCB0SOMI/UCB0SCL/TA1.0, 33 P4.4/TB0.5, 34 P4.5, 35 P4.6, 36 DVSS, 37 DVCC, 38 P2.7, 39 P2.3/TA0.0/UCA1STE/A6/C10, 40 P2.4/TA1.0/UCA1CLK/A7/C11, 41 AVSS, 42 PJ.6/HFXIN, 43 PJ.7/HFXOUT, 44 AVSS, 45 PJ.4/LFXIN, 46 PJ.5/LFXOUT, 47 AVSS, 48 AVCC, 49 VSS PAD

## MT25QL128ABB8E12-0AUT
designator U?
NOR Serial Flash Memory 128Mb 3.3V Multiple I/O Automotive; MF: Micron Technology; FBGA Code: RW318; Density: 128Mb; Operating Temperature: -40ºC to +125ºC; Package: T-PBGA; Type: Multi I/O; Width: x1/x2/x4; Nominal Supply Voltage (DC): 3.3 V; Part Status: Production; ComponentLink1Description: Manufacturer URL; ComponentLink1URL: http://www.micron.com/; Supplier 1: Digi-Key; Supplier 2: Mouser; Supplier Part Number 1: MT25QL128ABB8E12-0AUT-ND; Supplier Part Number 2: 340-348677
footprint Micron_RW (24-Ball T-PBGA 6 x 8mm)
pins: A4 ~{RESET} (in), B2 C (in), B3 VSS (power), B4 VCC (power), C2 ~{S} (in), C4 ~{W/DQ2} (in), D2 DQ1 (io), D3 DQ0 (io), D4 ~{HOLD#/DQ3} (io)

## MT41K256M8DA-107 AAT
designator U?
DDR3L SDRAM; Data Rate: DDR3-1866; Density: 2Gb; FBGA Code: D9PST; Nominal Supply Voltage (DC): 1.35 V; ComponentLink1Description: Manufacturer URL; ComponentLink1URL: http://www.micron.com/; Operating Temperature: -40ºC to +105ºC; Width: x8; Part Status: Production; Depth: 256 Meg; Supplier 1: Mouser; Supplier Part Number 1: 340-135717-TRAY
footprint Micron_DA (78-Ball FBGA 8 x 10 mm)
part A pins: A7 TDQS# (io) "Termination data strobe: Applies to the x8 configuration only. When TDQS is enabled, DM is disabled, and the TDQS and TDQS# balls provide termination resistance.", B3 DQ0 (io) "Data input/output: Bidirectional data bus for the x8 configuration. DQ[7:0] are referenced to VREFDQ.", B7 DM/TDQS (io) "Input data mask: DM is an input mask signal for write data. Input data is masked when DM is sampled HIGH along with the input data during a write access. Although the DM ball is input-only, the DM loading is designed to (See Datasheet)", C2 DQ2 (io) "Data input/output: Bidirectional data bus for the x8 configuration. DQ[7:0] are referenced to VREFDQ.", C3 DQS (io) "Data strobe: Output with read data. Edge-aligned with read data. Input with write data. Center-aligned to write data.", C7 DQ1 (io) "Data input/output: Bidirectional data bus for the x8 configuration. DQ[7:0] are referenced to VREFDQ.", C8 DQ3 (io) "Data input/output: Bidirectional data bus for the x8 configuration. DQ[7:0] are referenced to VREFDQ.", D2 DQ6 (io) "Data input/output: Bidirectional data bus for the x8 configuration. DQ[7:0] are referenced to VREFDQ.", D3 DQS# (io) "Data strobe: Output with read data. Edge-aligned with read data. Input with write data. Center-aligned to write data.", E3 DQ4 (io) "Data input/output: Bidirectional data bus for the x8 configuration. DQ[7:0] are referenced to VREFDQ.", E7 DQ7 (io) "Data input/output: Bidirectional data bus for the x8 configuration. DQ[7:0] are referenced to VREFDQ.", E8 DQ5 (io) "Data input/output: Bidirectional data bus for the x8 configuration. DQ[7:0] are referenced to VREFDQ.", F3 RAS# (in) "Command inputs: RAS#, CAS#, and WE# (along with CS#) define the command being entered and are referenced to VREFCA.", F7 CK (in) "Clock: CK and CK# are differential clock inputs. All address and control input signals are sampled on the crossing of the positive edge of CK and the negative edge of CK#. Output data strobe (DQS, DQS#) is referenced to the (See Datasheet)", G1 ODT (in) "On-die termination: ODT enables (registered HIGH) and disables (registered LOW) termination resistance internal to the DDR3 SDRAM. When enabled in normal operation, ODT is only applied to each of the following balls: (See Datasheet)", G3 CAS# (in) "Command inputs: RAS#, CAS#, and WE# (along with CS#) define the command being entered and are referenced to VREFCA.", G7 CK# (in) "Clock: CK and CK# are differential clock inputs. All address and control input signals are sampled on the crossing of the positive edge of CK and the negative edge of CK#. Output data strobe (DQS, DQS#) is referenced to the (See Datasheet)", G9 CKE (in) "Clock enable: CKE enables (registered HIGH) and disables (registered LOW) internal circuitry and clocks on the DRAM. The specific circuitry that is enabled/disabled is dependent upon the DDR3 SDRAM configuration and (See Datasheet)", H2 CS# (in) "Chip select: CS# enables (registered LOW) and disables (registered HIGH) the command decoder. All commands are masked when CS# is registered HIGH. CS# provides for external rank selection on systems with multiple ranks. CS# (See Datasheet)", H3 WE# (in) "Command inputs: RAS#, CAS#, and WE# (along with CS#) define the command being entered and are referenced to VREFCA.", H7 A10/AP (in) "Address inputs: Provide the row address for ACTIVATE commands, and the column address and auto precharge bit (A10) for READ/WRITE commands, to select one location out of the memory array in the respective bank. A10 sampled (See Datasheet)", H8 ZQ (in) "External reference ball for output drive calibration: This ball is tied to an external 240ohm resistor (RZQ), which is tied to VSSQ.", J2 BA0 (in) "Bank address inputs: BA[2:0] define the bank to which an ACTIVATE, READ, WRITE, or PRECHARGE command is being applied. BA[2:0] define which mode register (MR0, MR1, MR2, or MR3) is loaded during the LOAD MODE command. (See Datasheet)", J3 BA2 (in) "Bank address inputs: BA[2:0] define the bank to which an ACTIVATE, READ, WRITE, or PRECHARGE command is being applied. BA[2:0] define which mode register (MR0, MR1, MR2, or MR3) is loaded during the LOAD MODE command. (See Datasheet)", K2 A3 (in) "Address inputs: Provide the row address for ACTIVATE commands, and the column address and auto precharge bit (A10) for READ/WRITE commands, to select one location out of the memory array in the respective bank. A10 sampled (See Datasheet)", K3 A0 (in) "Address inputs: Provide the row address for ACTIVATE commands, and the column address and auto precharge bit (A10) for READ/WRITE commands, to select one location out of the memory array in the respective bank. A10 sampled (See Datasheet)", K7 A12/BC# (in) "Address inputs: Provide the row address for ACTIVATE commands, and the column address and auto precharge bit (A10) for READ/WRITE commands, to select one location out of the memory array in the respective bank. A10 sampled (See Datasheet)", K8 BA1 (in) "Bank address inputs: BA[2:0] define the bank to which an ACTIVATE, READ, WRITE, or PRECHARGE command is being applied. BA[2:0] define which mode register (MR0, MR1, MR2, or MR3) is loaded during the LOAD MODE command. (See Datasheet)", L2 A5 (in) "Address inputs: Provide the row address for ACTIVATE commands, and the column address and auto precharge bit (A10) for READ/WRITE commands, to select one location out of the memory array in the respective bank. A10 sampled (See Datasheet)", L3 A2 (in) "Address inputs: Provide the row address for ACTIVATE commands, and the column address and auto precharge bit (A10) for READ/WRITE commands, to select one location out of the memory array in the respective bank. A10 sampled (See Datasheet)", L7 A1 (in) "Address inputs: Provide the row address for ACTIVATE commands, and the column address and auto precharge bit (A10) for READ/WRITE commands, to select one location out of the memory array in the respective bank. A10 sampled (See Datasheet)", L8 A4 (in) "Address inputs: Provide the row address for ACTIVATE commands, and the column address and auto precharge bit (A10) for READ/WRITE commands, to select one location out of the memory array in the respective bank. A10 sampled (See Datasheet)", M2 A7 (in) "Address inputs: Provide the row address for ACTIVATE commands, and the column address and auto precharge bit (A10) for READ/WRITE commands, to select one location out of the memory array in the respective bank. A10 sampled (See Datasheet)", M3 A9 (in) "Address inputs: Provide the row address for ACTIVATE commands, and the column address and auto precharge bit (A10) for READ/WRITE commands, to select one location out of the memory array in the respective bank. A10 sampled (See Datasheet)", M7 A11 (in) "Address inputs: Provide the row address for ACTIVATE commands, and the column address and auto precharge bit (A10) for READ/WRITE commands, to select one location out of the memory array in the respective bank. A10 sampled (See Datasheet)", M8 A6 (in) "Address inputs: Provide the row address for ACTIVATE commands, and the column address and auto precharge bit (A10) for READ/WRITE commands, to select one location out of the memory array in the respective bank. A10 sampled (See Datasheet)", N2 RESET# (in) "Reset: RESET# is an active LOW CMOS input referenced to VSS. The RESET# input receiver is a CMOS input defined as a rail-to-rail signal with DC HIGH >= 0.8 x VDDQ and DC LOW =< 0.2 x VDDQ. RESET# assertion and deassertion (See Datasheet)", N3 A13 (in) "Address inputs: Provide the row address for ACTIVATE commands, and the column address and auto precharge bit (A10) for READ/WRITE commands, to select one location out of the memory array in the respective bank. A10 sampled (See Datasheet)", N7 A14 (in) "Address inputs: Provide the row address for ACTIVATE commands, and the column address and auto precharge bit (A10) for READ/WRITE commands, to select one location out of the memory array in the respective bank. A10 sampled (See Datasheet)", N8 A8 (in) "Address inputs: Provide the row address for ACTIVATE commands, and the column address and auto precharge bit (A10) for READ/WRITE commands, to select one location out of the memory array in the respective bank. A10 sampled (See Datasheet)"
part B pins: A1 VSS (power) "Ground.", A2 VDD (power) "Power supply: 1.35V, 1.283-1.45V operational; compatible to 1.5V operation.", A3 NC "No connect: These balls should be left unconnected (the ball has no connection to the DRAM or to other balls).", A8 VSS (power) "Ground.", A9 VDD (power) "Power supply: 1.35V, 1.283-1.45V operational; compatible to 1.5V operation.", B1 VSS (power) "Ground.", B2 VSSQ (power) "DQ ground: Isolated on the device for improved noise immunity.", B8 VSSQ (power) "DQ ground: Isolated on the device for improved noise immunity.", B9 VDDQ (power) "DQ power supply: 1.35V, 1.283-1.45V operational; compatible with 1.5V operation.", C1 VDDQ (power) "DQ power supply: 1.35V, 1.283-1.45V operational; compatible with 1.5V operation.", C9 VSSQ (power) "DQ ground: Isolated on the device for improved noise immunity.", D1 VSSQ (power) "DQ ground: Isolated on the device for improved noise immunity.", D7 VDD (power) "Power supply: 1.35V, 1.283-1.45V operational; compatible to 1.5V operation.", D8 VSS (power) "Ground.", D9 VSSQ (power) "DQ ground: Isolated on the device for improved noise immunity.", E1 VREFDQ (in) "Reference voltage for data: VREFDQ must be maintained at all times (including self refresh) for proper device operation.", E2 VDDQ (power) "DQ power supply: 1.35V, 1.283-1.45V operational; compatible with 1.5V operation.", E9 VDDQ (power) "DQ power supply: 1.35V, 1.283-1.45V operational; compatible with 1.5V operation.", F1 NC "No connect: These balls should be left unconnected (the ball has no connection to the DRAM or to other balls).", F2 VSS (power) "Ground.", F8 VSS (power) "Ground.", F9 NC "No connect: These balls should be left unconnected (the ball has no connection to the DRAM or to other balls).", G2 VDD (power) "Power supply: 1.35V, 1.283-1.45V operational; compatible to 1.5V operation.", G8 VDD (power) "Power supply: 1.35V, 1.283-1.45V operational; compatible to 1.5V operation.", H1 NC "No connect: These balls should be left unconnected (the ball has no connection to the DRAM or to other balls).", H9 NC "No connect: These balls should be left unconnected (the ball has no connection to the DRAM or to other balls).", J1 VSS (power) "Ground.", J7 NC "No connect: These balls should be left unconnected (the ball has no connection to the DRAM or to other balls).", J8 VREFCA (in) "Reference voltage for control, command, and address: VREFCA must be maintained at all times (including self refresh) for proper device operation.", J9 VSS (power) "Ground.", K1 VDD (power) "Power supply: 1.35V, 1.283-1.45V operational; compatible to 1.5V operation.", K9 VDD (power) "Power supply: 1.35V, 1.283-1.45V operational; compatible to 1.5V operation.", L1 VSS (power) "Ground.", L9 VSS (power) "Ground.", M1 VDD (power) "Power supply: 1.35V, 1.283-1.45V operational; compatible to 1.5V operation.", M9 VDD (power) "Power supply: 1.35V, 1.283-1.45V operational; compatible to 1.5V operation.", N1 VSS (power) "Ground.", N9 VSS (power) "Ground."

## MT41K256M16TW-107 AAT
designator U?
DDR3L SDRAM; Data Rate: DDR3-1866; Density: 4Gb; FBGA Code: D9SHM; Nominal Supply Voltage (DC): 1.35 V; Operating Temperature: -40ºC to +105ºC; Width: x16; Part Status: Production; Depth: 256 Meg; ComponentLink1Description: Manufacturer URL; ComponentLink1URL: http://www.micron.com/; Supplier 1: Digi-Key; Supplier 2: Mouser; Supplier Part Number 1: MT41K256M16TW-107IT:P-ND; Supplier Part Number 2: 340-265862-TRAY
footprint Micron_TW (96-Ball FBGA 8mm x 14 mm)
part A pins: A2 DQ13 (io), A3 DQ15 (io), A7 DQ12 (io), B7 ~{UDQS} (io), B8 DQ14 (io), C2 DQ11 (io), C3 DQ9 (io), C7 UDQS (io), C8 DQ10 (io), D3 UDM (in), D7 DQ8 (io), E3 DQ0 (io), E7 LDM (in), F2 DQ2 (io), F3 LDQS (io), F7 DQ1 (io), F8 DQ3 (io), G2 DQ6 (io), G3 ~{LDQS} (io), H3 DQ4 (io), H7 DQ7 (io), H8 DQ5 (io), J1 NC, J3 ~{RAS} (in), J7 CK (in), J9 NC, K1 ODT (in), K3 ~{CAS} (in), K7 ~{CK} (in), K9 CKE (in), L1 NC, L2 ~{CS} (in), L3 ~{WE} (in), L7 A10/AP (in), L8 ZQ, L9 NC, M2 BA0 (in), M3 BA2 (in), M7 NC, N2 A3 (in), N3 A0 (in), N7 A12/~{BC} (in), N8 BA1 (in), P2 A5 (in), P3 A2 (in), P7 A1 (in), P8 A4 (in), R2 A7 (in), R3 A9 (in), R7 A11 (in), R8 A6 (in), T2 ~{RESET} (in), T3 A13 (in), T7 A14 (in), T8 A8 (in)
part B pins: A1 VDDQ (power), A8 VDDQ (power), A9 VSS (power), B1 VSSQ (power), B2 VDD (power), B3 VSS (power), B9 VSSQ (power), C1 VDDQ (power), C9 VDDQ (power), D1 VSSQ (power), D2 VDDQ (power), D8 VSSQ (power), D9 VDD (power), E1 VSS (power), E2 VSSQ (power), E8 VSSQ (power), E9 VDDQ (power), F1 VDDQ (power), F9 VSSQ (power), G1 VSSQ (power), G7 VDD (power), G8 VSS (power), G9 VSSQ (power), H1 VREFDQ (power), H2 VDDQ (power), H9 VDDQ (power), J2 VSS (power), J8 VSS (power), K2 VDD (power), K8 VDD (power), M1 VSS (power), M8 VREFCA (power), M9 VSS (power), N1 VDD (power), N9 VDD (power), P1 VSS (power), P9 VSS (power), R1 VDD (power), R9 VDD (power), T1 VSS (power), T9 VSS (power)

## MTFC32GAPALBH-AAT
designator U?
Flash Memory Managed NAND e.MMC Automotive 32GB; MF: Micron Technology; FBGA Code: JWC65; Nominal Supply Voltage (DC): 3.3 V; Density: Density; Package: TFBGA; Operating Temperature: -40ºC to +105ºC; Width: x8; Part Status: Production; ComponentLink1Description: Manufacturer URL; ComponentLink1URL: http://www.micron.com/; Supplier 1: Digi-Key; Supplier 2: Mouser; Supplier Part Number 1: MTFC32GAPALBH-AAT-ND; Supplier Part Number 2: 340-349173-TRAY
footprint Micron_BH (153-Ball TFBGA 11.5 x 13 mm)
pins: A3 DAT0 (io), A4 DAT1 (io), A5 DAT2 (io), A6 VSS (power), B2 DAT3 (io), B3 DAT4 (io), B4 DAT5 (io), B5 DAT6 (io), B6 DAT7 (io), C2 VDDIM (power), C4 VCCQ (power), C6 VCCQ (power), E6 VCC (power), E7 VSS (power), F5 VCC (power), G5 VSS (power), H5 DS (io), H10 VSS (power), J5 VSS (power), J10 VCC (power), K5 RST_N (in), K8 VSS (power), K9 VCC (power), M4 VCCQ (power), M5 CMD (io), M6 CLK (in), N2 VCCQ (power), N4 VCCQ (power), N5 VCCQ (power), P3 VCCQ (power), P4 VCCQ (power), P5 VCCQ (power), P6 VSSQ (power)

## PCB
designator !PCB?, comment Printed Circuit Board  (value not drawn)  (mechanical)
Manufacturer: Any; SymbolCreator: a0412235; CompType: PCB; SymbolVersion: 2012-05-30; PartNumber: =PRJ_Number; RoHS: O; MountType: N/A; Publisher: Texas Instruments; LatestRevisionDate: 2014-11-19
1 alternate drawing of the same symbol
text: PCB Number:; PCB Rev:

## QSE-020-01-F-D-A
designator J?
40 Position Connector Header, Outer Shroud Contacts Surface Mount Gold; MF: Samtec; MP: QSE-020-01-F-D-A; System: Connector; Supplier 1: Digi-Key; Supplier 2: Mouser; Supplier Part Number 1: SAM8955-ND; Supplier Part Number 2: 200-QSE02001FDA
footprint SAMTEC_QSE-020-01-X-D-A
pins: 01, 02, 03, 04, 05, 06, 07, 08, 09, 10, 11, 12, 13, 14, 15, 16, 17, 18, 19, 20, 21, 22, 23, 24, 25, 26, 27, 28, 29, 30, 31, 32, 33, 34, 35, 36, 37, 38, 39, 40, G1 GND (power), G2 GND (power), G3 GND (power), G4 GND (power)

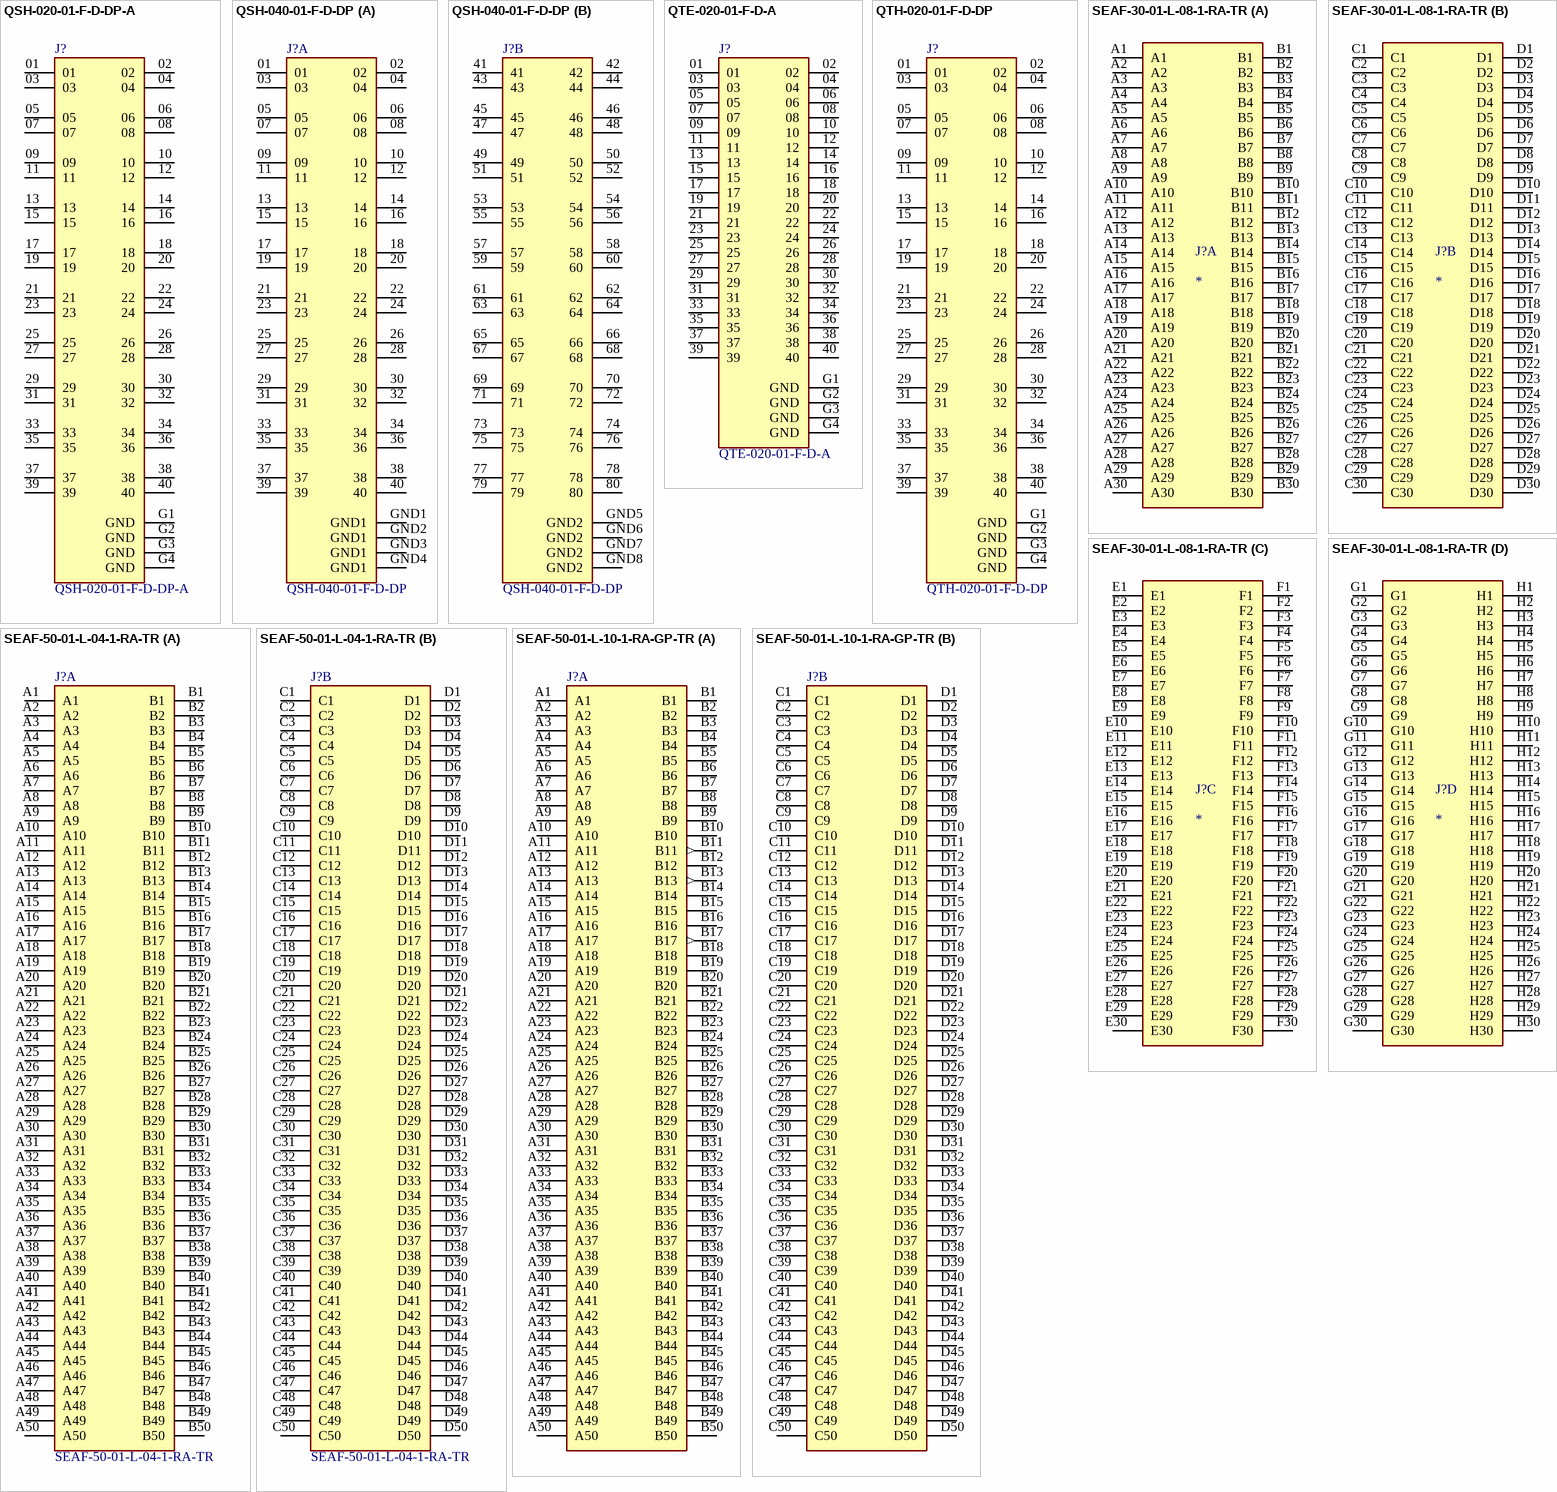
[diagram p6: symbols QSH-020-01-F-D-DP-A to SEAF-50-01-L-10-1-RA-GP-TR]

## QSH-020-01-F-D-DP-A
designator J?
0.50 mm Q Pairs® High-Speed Ground Plane Terminal Strip, Differential Pair; MF: Samtec; System: Connector; MP: QSH-020-01-F-D-DP-A; ComponentLink1Description: MF; ComponentLink1URL: https://www.samtec.com/products/qth-dp; Supplier 1: Digi-Key; Supplier 2: Mouser; Supplier Part Number 2: 200-QSH02001FDDPA; Supplier Part Number 1: SAM10647-ND
footprint SAMTEC_QSH-020-01-X-D-DP-A
pins: 01, 02, 03, 04, 05, 06, 07, 08, 09, 10, 11, 12, 13, 14, 15, 16, 17, 18, 19, 20, 21, 22, 23, 24, 25, 26, 27, 28, 29, 30, 31, 32, 33, 34, 35, 36, 37, 38, 39, 40, G1 GND (power), G2 GND (power), G3 GND (power), G4 GND (power)